# EAGLE library part X__OLIMEXDISPLAY (library ++Bedrahtet)
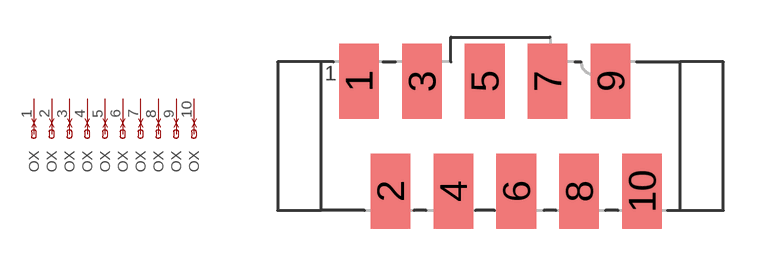
[diagram p18: symbol with the pads of OLIMEX-DISPLAY; footprint OLIMEX-DISPLAY]

Designator prefix X; gates G$1=OLIMEXPIN G$2=OLIMEXPIN G$3=OLIMEXPIN G$4=OLIMEXPIN G$5=OLIMEXPIN G$6=OLIMEXPIN G$7=OLIMEXPIN G$8=OLIMEXPIN G$9=OLIMEXPIN G$10=OLIMEXPIN

## X__OLIMEXDISPLAY  [OLIMEX-DISPLAY]
1  G$1:OX
2  G$2:OX
3  G$3:OX
4  G$4:OX
5  G$5:OX
6  G$6:OX
7  G$7:OX
8  G$8:OX
9  G$9:OX
10  G$10:OX

## Footprint OLIMEX-DISPLAY (pad centres in mm)
smd 1.6 x 3.023: 1 -5.715,2.223; 2 -4.445,-2.223; 3 -3.175,2.223; 4 -1.905,-2.223; 5 -0.635,2.223; 6 0.635,-2.223; 7 1.905,2.223; 8 3.175,-2.223; 9 4.445,2.223; 10 5.715,-2.223